# EAGLE library part TPS704 (library texas-instruments)
TI PRODUCT VOLTAGE (V) PACKAGE-LEAD SPECIFIED TEMPERATURE RANGE ORDERING NUMBER TRANSPORT MEDIA, QUANTITY Vout1 Vout2 TPS70445 3,3V 1,2V HTSSOP-24 (PWP) –40°C to +125°C TPS70445PWP Tube, 60 TPS70445PWPR Tape and Reel, 2000 TPS70448 3,3V 1,5V TPS70448PWP Tube, 60 TPS70448PWPR Tape and Reel, 2000 TPS70451 3,3V 1,8V TPS70451PWP Tube, 60 TPS70451PWPR Tape and Reel, 2000 TPS70458 3,3V 2,5V TPS70458PWP Tube, 60 TPS70458PWPR Tape and Reel, 2000
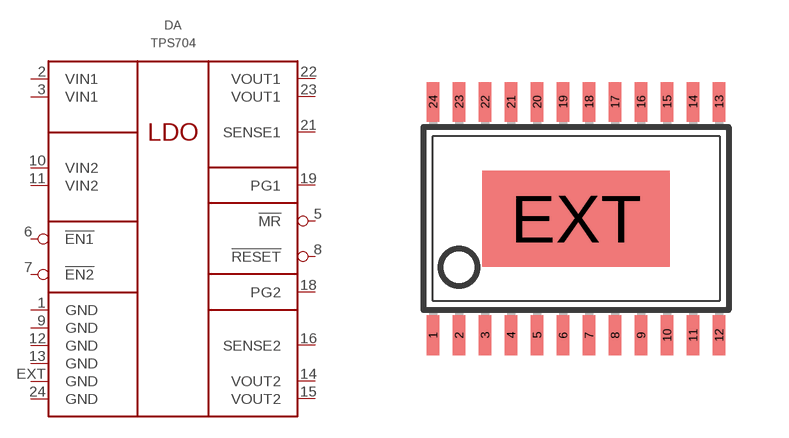
[diagram p9: symbol with the pads of HTSSOP-24; footprint HTSSOP-24]

Designator prefix DA

## TPS70445PWP  [HTSSOP-24]
1  GND  pwr
2  VIN1  pwr
3  VIN1  pwr
5  !MR  out
6  !EN1  in
7  !EN2  in
8  !RESET  out
9  GND  pwr
10  VIN2  pwr
11  VIN2  pwr
12  GND  pwr
13  GND  pwr
14  VOUT2  pwr
15  VOUT2  pwr
16  SENSE2  in
18  PG2  out
19  PG1  out
21  SENSE1  in
22  VOUT1  pwr
23  VOUT1  pwr
24  GND  pwr
EXT  GND  pwr

## TPS70445PWPR  [HTSSOP-24]
Pads as for HTSSOP-24

## TPS70448PWP  [HTSSOP-24]
Pads as for HTSSOP-24

## TPS70448PWPR  [HTSSOP-24]
Pads as for HTSSOP-24

## TPS70451PWP  [HTSSOP-24]
Pads as for HTSSOP-24

## TPS70451PWPR  [HTSSOP-24]
Pads as for HTSSOP-24

## TPS70458PWP  [HTSSOP-24]
Pads as for HTSSOP-24

## TPS70458PWPR  [HTSSOP-24]
Pads as for HTSSOP-24

## Footprint HTSSOP-24 (pad centres in mm)
Thin Shrink Small Outline Plastic 24 MAX3223-MAX3243.pdf
smd 0.305 x 0.991: 1 -3.575,-2.918; 2 -2.925,-2.918; 3 -2.275,-2.918; 4 -1.625,-2.918; 5 -0.975,-2.918; 6 -0.325,-2.918; 7 0.325,-2.918; 8 0.975,-2.918; 9 1.625,-2.918; 10 2.275,-2.918; 11 2.925,-2.918; 12 3.575,-2.918; 13 3.575,2.918; 14 2.925,2.918; 15 2.275,2.918; 16 1.625,2.918; 17 0.975,2.918; 18 0.325,2.918; 19 -0.325,2.918; 20 -0.975,2.918; 21 -1.625,2.918; 22 -2.275,2.918; 23 -2.925,2.918; 24 -3.575,2.918
smd 4.68 x 2.4: EXT 0,0